# EAGLE library part 613036143121 (library Board-to-Board (rev18a))
WR-PHD 2.54mm Angled Socket Header, 36 Pins =>Code : Con_BTB_SHD_2.54_1_THT_613036143121 <http://katalog.we-online.de/media/images/eican/Con_BTB_SHD_2.54_1_THT_6130xx143121_pf2.jpg> Details see: http://katalog.we-online.de/en/em/613_0xx_143_121 Created 2014-05-29, Karrer Zheng 2014 (C) Würth Elektronik
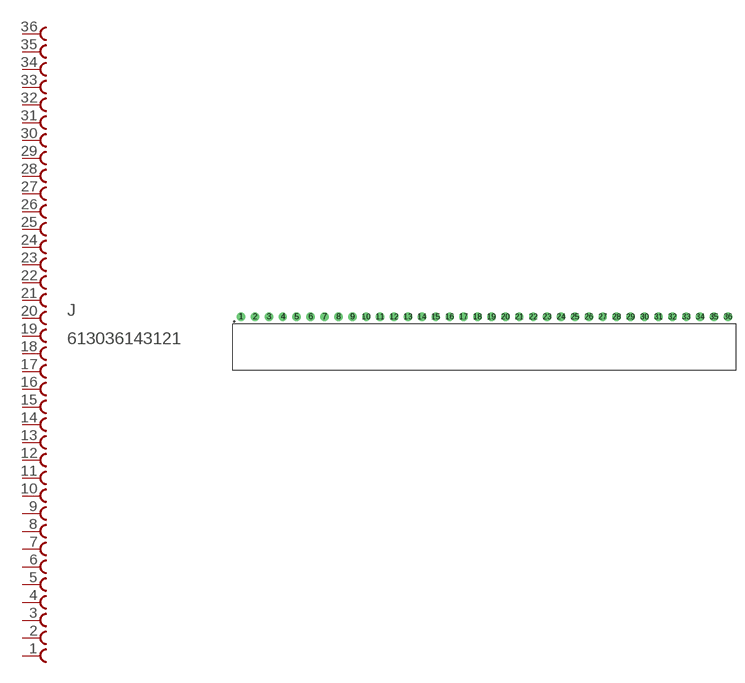
[diagram p143: symbol with the pads of 613036143121; footprint 613036143121]

Designator prefix J

## 613036143121  [613036143121]
1  36  pas
2  35  pas
3  34  pas
4  33  pas
5  32  pas
6  31  pas
7  30  pas
8  29  pas
9  28  pas
10  27  pas
11  26  pas
12  25  pas
13  24  pas
14  23  pas
15  22  pas
16  21  pas
17  20  pas
18  19  pas
19  18  pas
20  17  pas
21  16  pas
22  15  pas
23  14  pas
24  13  pas
25  12  pas
26  11  pas
27  10  pas
28  9  pas
29  8  pas
30  7  pas
31  6  pas
32  5  pas
33  4  pas
34  3  pas
35  2  pas
36  1  pas

## Footprint 613036143121 (pad centres in mm)
WR-PHD 2.54mm Angled Socket Header, 36 Pins
drill 1.02: 1 -44.45,0; 2 -41.91,0; 3 -39.37,0; 4 -36.83,0; 5 -34.29,0; 6 -31.75,0; 7 -29.21,0; 8 -26.67,0; 9 -24.13,0; 10 -21.59,0; 11 -19.05,0; 12 -16.51,0; 13 -13.97,0; 14 -11.43,0; 15 -8.89,0; 16 -6.35,0; 17 -3.81,0; 18 -1.27,0; 19 1.27,0; 20 3.81,0; 21 6.35,0; 22 8.89,0; 23 11.43,0; 24 13.97,0; 25 16.51,0; 26 19.05,0; 27 21.59,0; 28 24.13,0; 29 26.67,0; 30 29.21,0; 31 31.75,0; 32 34.29,0; 33 36.83,0; 34 39.37,0; 35 41.91,0; 36 44.45,0